# Altium schematic symbol library Interface_USB.SchLib: 106 symbols (part 2 of 2)
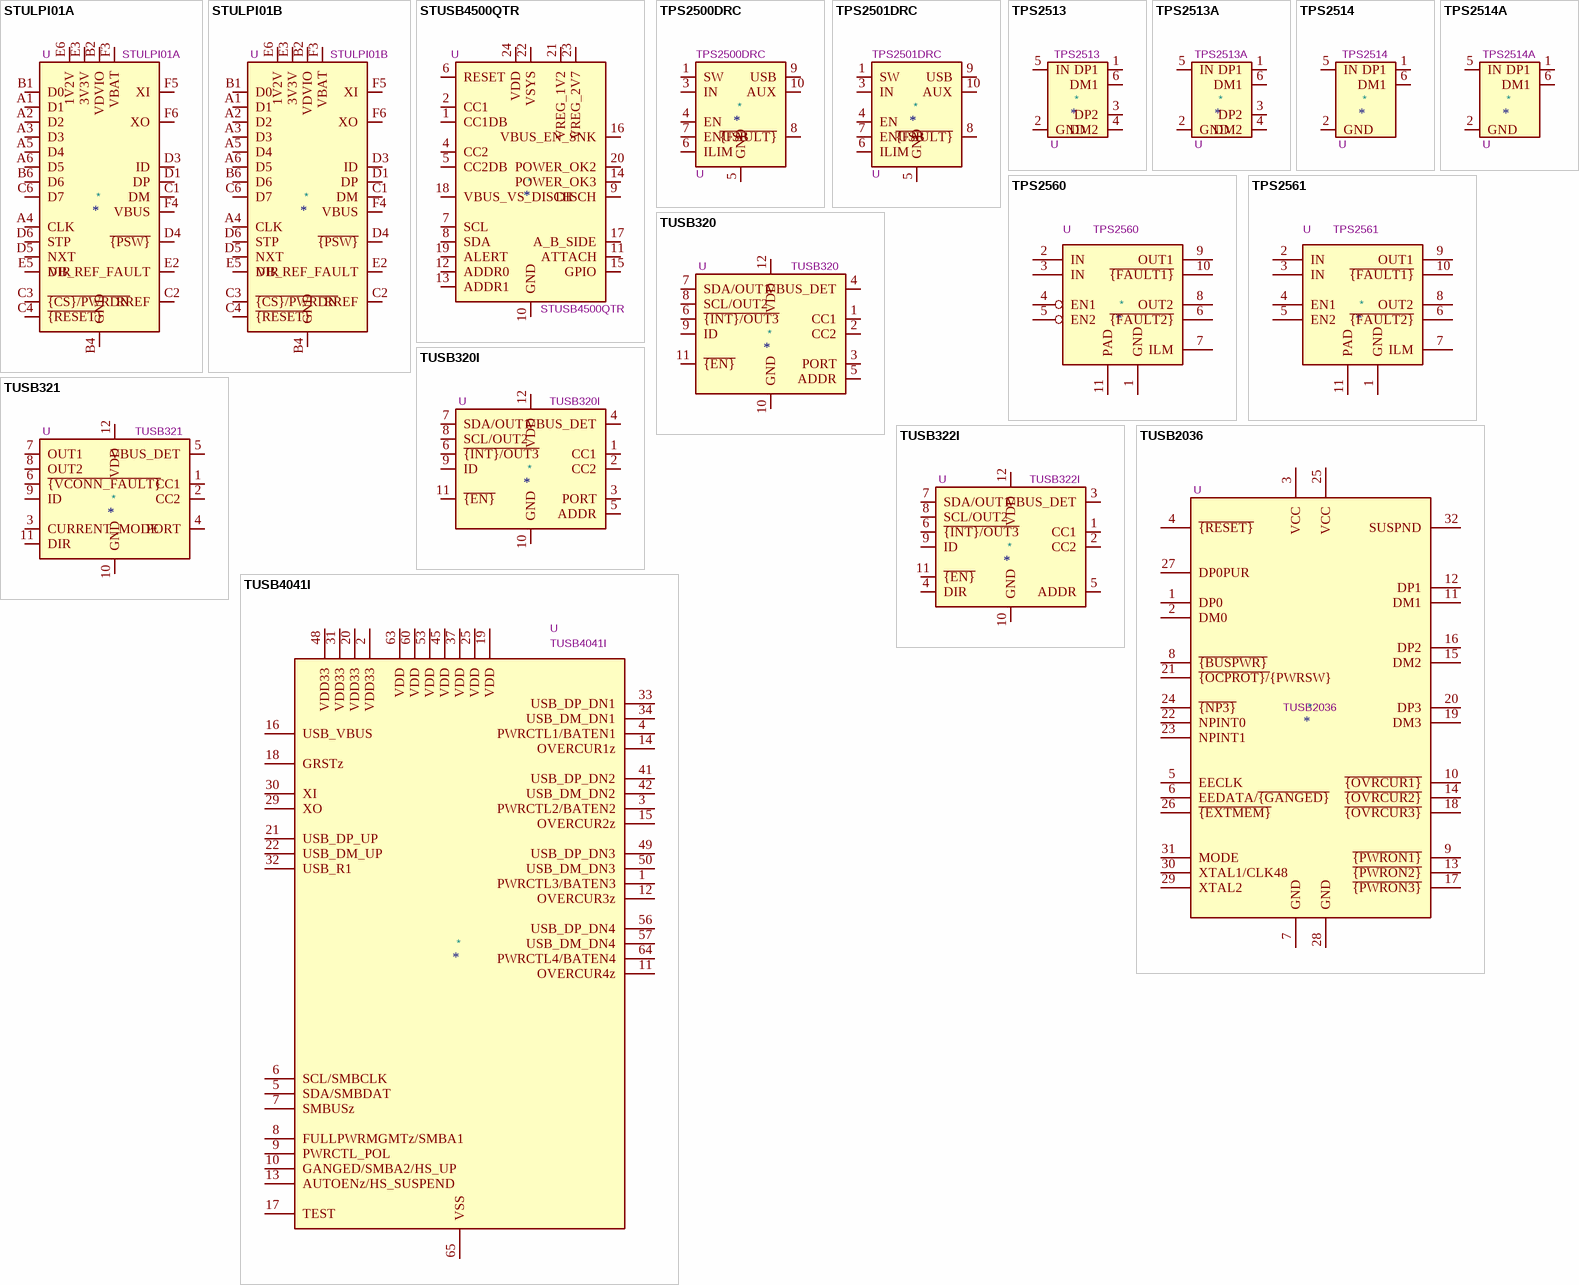
[diagram p7: symbols STULPI01A to TUSB4041I]

## TPS2513A
designator *  value TPS2513A  Reference: U
ki_keywords: USB Charge; ki_description: USB Dedicated Charging Port Controller; ki_fp_filters: SOT?23*; Footprint: Package_TO_SOT_SMD:SOT-23-6; Datasheet: http://www.ti.com/lit/ds/symlink/tps2513.pdf
pins: 1 DP1, 2 GND, 3 DP2, 4 DM2, 5 IN, 6 DM1

## TPS2514
designator *  value TPS2514  Reference: U
ki_keywords: USB Charge; ki_description: USB Dedicated Charging Port Controller; ki_fp_filters: SOT?23*; Footprint: Package_TO_SOT_SMD:SOT-23-6; Datasheet: http://www.ti.com/lit/ds/symlink/tps2513.pdf
pins: 1 DP1, 2 GND, 3 NC hidden, 4 NC hidden, 5 IN, 6 DM1

## TPS2514A
designator *  value TPS2514A  Reference: U
ki_keywords: USB Charge; ki_description: USB Dedicated Charging Port Controller; ki_fp_filters: SOT?23*; Footprint: Package_TO_SOT_SMD:SOT-23-6; Datasheet: http://www.ti.com/lit/ds/symlink/tps2513.pdf
pins: 1 DP1, 2 GND, 3 NC hidden, 4 NC hidden, 5 IN, 6 DM1

## TPS2560
designator *  value TPS2560  Reference: U
ki_keywords: power switche current limited usb port; ki_description: Dual channel precision adjustable current-limited power switches; ki_fp_filters: VSON*3x3mm*P0.5mm*; Footprint: Package_SON:VSON-10-1EP_3x3mm_P0.5mm_EP1.65x2.4mm_ThermalVias; Datasheet: http://www.ti.com/lit/ds/symlink/tps2560.pdf
pins: 1 GND, 2 IN, 3 IN, 4 EN1, 5 EN2, 6 ~{{FAULT2}}, 7 ILM, 8 OUT2, 9 OUT1, 10 ~{{FAULT1}}, 11 PAD

## TPS2561
designator *  value TPS2561  Reference: U
ki_keywords: power switche current limited usb port; ki_description: Dual channel precision adjustable current-limited power switches; ki_fp_filters: VSON*3x3mm*P0.5mm*; Footprint: Package_SON:VSON-10-1EP_3x3mm_P0.5mm_EP1.65x2.4mm_ThermalVias; Datasheet: http://www.ti.com/lit/ds/symlink/tps2561.pdf
pins: 1 GND, 2 IN, 3 IN, 4 EN1, 5 EN2, 6 ~{{FAULT2}}, 7 ILM, 8 OUT2, 9 OUT1, 10 ~{{FAULT1}}, 11 PAD

## TUSB320
designator *  value TUSB320  Reference: U
ki_keywords: USB PD CC; ki_description: USB Type-C Configuration Channel Logic and Port Control, X2QFN-12; ki_fp_filters: Texas?X2QFN*1.6x1.6mm*P0.4mm*; Footprint: Package_DFN_QFN:Texas_X2QFN-12_1.6x1.6mm_P0.4mm; Datasheet: http://www.ti.com/lit/ds/symlink/tusb320.pdf
pins: 1 CC1, 2 CC2, 3 PORT, 4 VBUS_DET, 5 ADDR, 6 ~{{INT}/OUT3}, 7 SDA/OUT1, 8 SCL/OUT2, 9 ID, 10 GND, 11 ~{{EN}}, 12 VDD

## TUSB320I
designator *  value TUSB320I  Reference: U
ki_keywords: USB PD CC; ki_description: USB Type-C Configuration Channel Logic and Port Control, industrial temperature range, X2QFN-12; ki_fp_filters: Texas?X2QFN*1.6x1.6mm*P0.4mm*; Footprint: Package_DFN_QFN:Texas_X2QFN-12_1.6x1.6mm_P0.4mm; Datasheet: http://www.ti.com/lit/ds/symlink/tusb320.pdf
pins: 1 CC1, 2 CC2, 3 PORT, 4 VBUS_DET, 5 ADDR, 6 ~{{INT}/OUT3}, 7 SDA/OUT1, 8 SCL/OUT2, 9 ID, 10 GND, 11 ~{{EN}}, 12 VDD

## TUSB321
designator *  value TUSB321  Reference: U
ki_keywords: USB CC PD VCONN; ki_description: USB Type-C Configuration Channel Logic and Port Control with VCONN, X2QFN-12; ki_fp_filters: Texas?X2QFN*1.6x1.6mm*P0.4mm*; Footprint: Package_DFN_QFN:Texas_X2QFN-12_1.6x1.6mm_P0.4mm; Datasheet: http://www.ti.com/lit/ds/symlink/tusb321.pdf
pins: 1 CC1, 2 CC2, 3 CURRENT_MODE, 4 PORT, 5 VBUS_DET, 6 ~{{VCONN_FAULT}}, 7 OUT1, 8 OUT2, 9 ID, 10 GND, 11 DIR, 12 VDD

## TUSB322I
designator *  value TUSB322I  Reference: U
ki_keywords: USB VCONN PD CC; ki_description: USB Type-C Configuration Channel Logic and Port Control with VCONN, X2QFN-12; ki_fp_filters: Texas?X2QFN*1.6x1.6mm*P0.4mm*; Footprint: Package_DFN_QFN:Texas_X2QFN-12_1.6x1.6mm_P0.4mm; Datasheet: www.ti.com/lit/ds/symlink/tusb322i.pdf
pins: 1 CC1, 2 CC2, 3 VBUS_DET, 4 DIR, 5 ADDR, 6 ~{{INT}/OUT3}, 7 SDA/OUT1, 8 SCL/OUT2, 9 ID, 10 GND, 11 ~{{EN}}, 12 VDD

## TUSB2036
designator *  value TUSB2036  Reference: U
ki_keywords: 2-Port, 3-Port, 3.3V, EEPROM, Full Speed, Hub, Texas Instruments, USB1.1; ki_description: 2- or 3-Port USB1.1 HUB with optional serial EEPROM; ki_fp_filters: LQFP*7x7mm*P0.8mm*; Footprint: Package_QFP:LQFP-32_7x7mm_P0.8mm; Datasheet: http://www.ti.com/lit/ds/symlink/tusb2036.pdf
pins: 1 DP0, 2 DM0, 3 VCC, 4 ~{{RESET}}, 5 EECLK, 6 EEDATA/~{{GANGED}}, 7 GND, 8 ~{{BUSPWR}}, 9 ~{{PWRON1}}, 10 ~{{OVRCUR1}}, 11 DM1, 12 DP1, 13 ~{{PWRON2}}, 14 ~{{OVRCUR2}}, 15 DM2, 16 DP2, 17 ~{{PWRON3}}, 18 ~{{OVRCUR3}}, 19 DM3, 20 DP3, 21 ~{{OCPROT}/}{PWRSW}, 22 NPINT0, 23 NPINT1, 24 ~{{NP3}}, 25 VCC, 26 ~{{EXTMEM}}, 27 DP0PUR, 28 GND, 29 XTAL2, 30 XTAL1/CLK48, 31 MODE, 32 SUSPND

## TUSB4041I
designator *  value TUSB4041I  Reference: U
ki_keywords: USB2.0 hub; ki_description: four port USB 2.0 Hub; ki_fp_filters: HTQFP*10x10mm*P0.5mm*; Footprint: Package_QFP:HTQFP-64-1EP_10x10mm_P0.5mm_EP8x8mm_Mask4.4x4.4mm_ThermalVias; Datasheet: http://www.ti.com/lit/ds/symlink/tusb4041i.pdf
pins: 1 PWRCTL3/BATEN3, 2 VDD33, 3 PWRCTL2/BATEN2, 4 PWRCTL1/BATEN1, 5 SDA/SMBDAT, 6 SCL/SMBCLK, 7 SMBUSz, 8 FULLPWRMGMTz/SMBA1, 9 PWRCTL_POL, 10 GANGED/SMBA2/HS_UP, 11 OVERCUR4z, 12 OVERCUR3z, 13 AUTOENz/HS_SUSPEND, 14 OVERCUR1z, 15 OVERCUR2z, 16 USB_VBUS, 17 TEST, 18 GRSTz, 19 VDD, 20 VDD33, 21 USB_DP_UP, 22 USB_DM_UP, 23 RSVD hidden, 24 RSVD hidden, 25 VDD, 26 RSVD hidden, 27 RSVD hidden, 28 NC hidden, 29 XO, 30 XI, 31 VDD33, 32 USB_R1, 33 USB_DP_DN1, 34 USB_DM_DN1, 35 RSVD hidden, 36 RSVD hidden, 37 VDD, 38 RSVD hidden, 39 RSVD hidden, 40 NC hidden, 41 USB_DP_DN2, 42 USB_DM_DN2, 43 RSVD hidden, 44 RSVD hidden, 45 VDD, 46 RSVD hidden, 47 RSVD hidden, 48 VDD33, 49 USB_DP_DN3, 50 USB_DM_DN3, 51 RSVD hidden, 52 RSVD hidden, 53 VDD, 54 RSVD hidden, 55 RSVD hidden, 56 USB_DP_DN4, 57 USB_DM_DN4, 58 RSVD hidden, 59 RSVD hidden, 60 VDD, 61 RSVD hidden, 62 RSVD hidden, 63 VDD, 64 PWRCTL4/BATEN4, 65 VSS

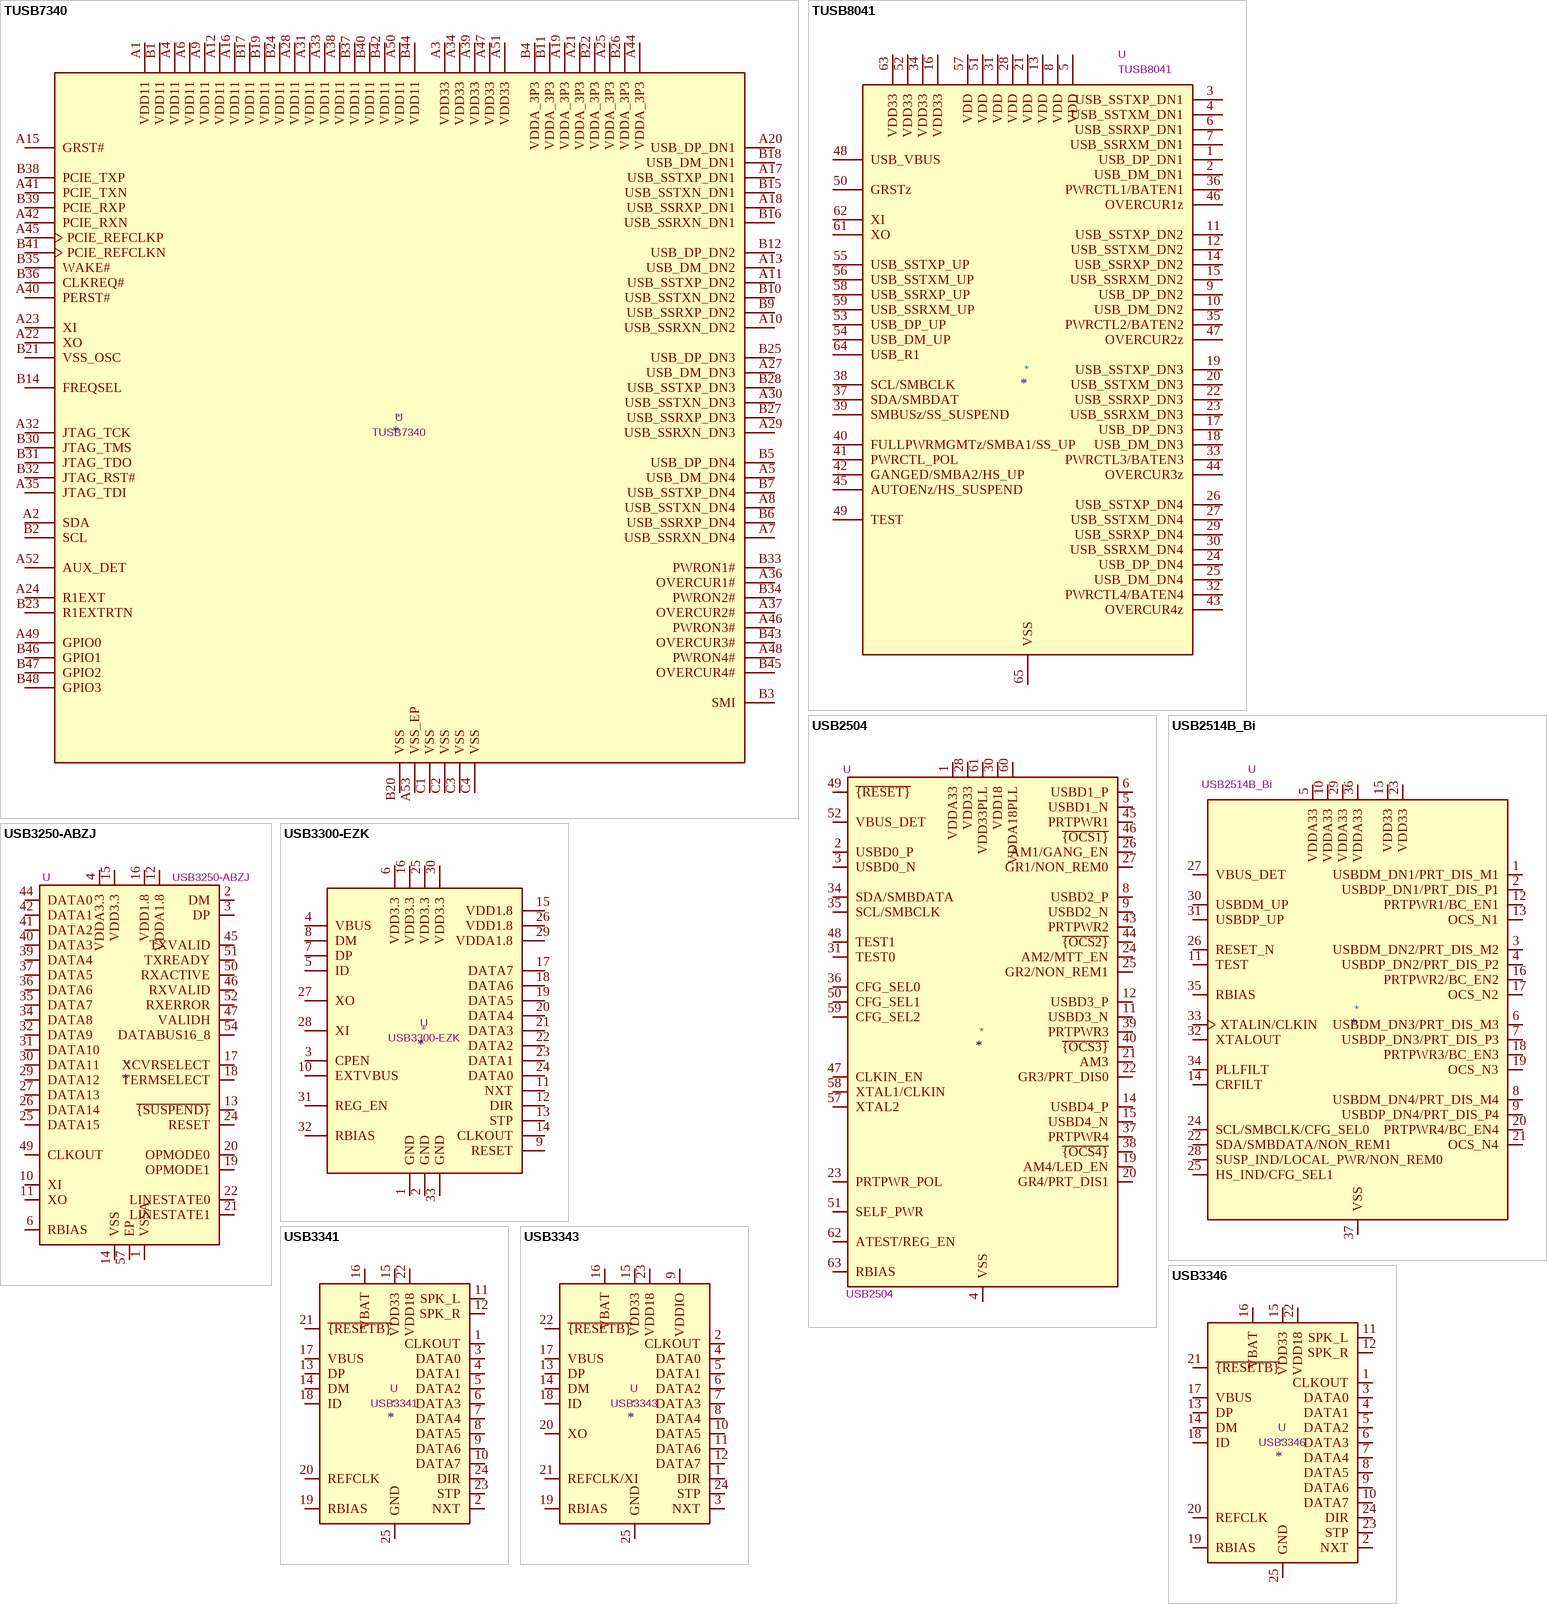
[diagram p5: symbols TUSB7340 to USB3346]

## TUSB7340
designator *  value TUSB7340  Reference: U
ki_keywords: USB HUB PCIE; ki_description: USB 3.0 xHCI Host Controller; ki_fp_filters: Texas*S?PWQFN?N100*; Footprint: Package_DFN_QFN:Texas_S-PWQFN-N100_EP5.5x5.5mm_ThermalVias; Datasheet: http://www.ti.com/general/docs/lit/getliterature.tsp?genericPartNumber=tusb7320&fileType=pdf
pins: A1 VDD11, A2 SDA, A3 VDD33, A4 VDD11, A5 USB_DM_DN4, A6 VDD11, A7 USB_SSRXN_DN4, A8 USB_SSTXN_DN4, A9 VDD11, A10 USB_SSRXN_DN2, A11 USB_SSTXP_DN2, A12 VDD11, A13 USB_DM_DN2, A14 NC hidden, A15 GRST#, A16 VDD11, A17 USB_SSTXP_DN1, A18 USB_SSRXP_DN1, A19 VDDA_3P3, A20 USB_DP_DN1, A21 VDDA_3P3, A22 XO, A23 XI, A24 R1EXT, A25 VDDA_3P3, A26 NC hidden, A27 USB_DM_DN3, A28 VDD11, A29 USB_SSRXN_DN3, A30 USB_SSTXN_DN3, A31 VDD11, A32 JTAG_TCK, A33 VDD11, A34 VDD33, A35 JTAG_TDI, A36 OVERCUR1#, A37 OVERCUR2#, A38 VDD11, A39 VDD33, A40 PERST#, A41 PCIE_TXN, A42 PCIE_RXN, A43 NC hidden, A44 VDDA_3P3, A45 PCIE_REFCLKP, A46 PWRON3#, A47 VDD33, A48 PWRON4#, A49 GPIO0, A50 VDD11, A51 VDD33, A52 AUX_DET, A53 VSS_EP, B1 VDD11, B2 SCL, B3 SMI, B4 VDDA_3P3, B5 USB_DP_DN4, B6 USB_SSRXP_DN4, B7 USB_SSTXP_DN4, B8 NC hidden, B9 USB_SSRXP_DN2, B10 USB_SSTXN_DN2, B11 VDDA_3P3, B12 USB_DP_DN2, B13 NC hidden, B14 FREQSEL, B15 USB_SSTXN_DN1, B16 USB_SSRXN_DN1, B17 VDD11, B18 USB_DM_DN1, B19 VDD11, B20 VSS, B21 VSS_OSC, B22 VDDA_3P3, B23 R1EXTRTN, B24 VDD11, B25 USB_DP_DN3, B26 VDDA_3P3, B27 USB_SSRXP_DN3, B28 USB_SSTXP_DN3, B29 NC hidden, B30 JTAG_TMS, B31 JTAG_TDO, B32 JTAG_RST#, B33 PWRON1#, B34 PWRON2#, B35 WAKE#, B36 CLKREQ#, B37 VDD11, B38 PCIE_TXP, B39 PCIE_RXP, B40 VDD11, B41 PCIE_REFCLKN, B42 VDD11, B43 OVERCUR3#, B44 VDD11, B45 OVERCUR4#, B46 GPIO1, B47 GPIO2, B48 GPIO3, C1 VSS, C2 VSS, C3 VSS, C4 VSS

## TUSB8041
designator *  value TUSB8041  Reference: U
ki_keywords: USB3.0 hub; ki_description: four port USB 3.0 Hub; ki_fp_filters: QFN*9x9mm*P0.5mm*; Footprint: Package_DFN_QFN:QFN-64-1EP_9x9mm_P0.5mm_EP6x6mm_ThermalVias; Datasheet: http://www.ti.com/lit/ds/symlink/tusb8041.pdf
pins: 1 USB_DP_DN1, 2 USB_DM_DN1, 3 USB_SSTXP_DN1, 4 USB_SSTXM_DN1, 5 VDD, 6 USB_SSRXP_DN1, 7 USB_SSRXM_DN1, 8 VDD, 9 USB_DP_DN2, 10 USB_DM_DN2, 11 USB_SSTXP_DN2, 12 USB_SSTXM_DN2, 13 VDD, 14 USB_SSRXP_DN2, 15 USB_SSRXM_DN2, 16 VDD33, 17 USB_DP_DN3, 18 USB_DM_DN3, 19 USB_SSTXP_DN3, 20 USB_SSTXM_DN3, 21 VDD, 22 USB_SSRXP_DN3, 23 USB_SSRXM_DN3, 24 USB_DP_DN4, 25 USB_DM_DN4, 26 USB_SSTXP_DN4, 27 USB_SSTXM_DN4, 28 VDD, 29 USB_SSRXP_DN4, 30 USB_SSRXM_DN4, 31 VDD, 32 PWRCTL4/BATEN4, 33 PWRCTL3/BATEN3, 34 VDD33, 35 PWRCTL2/BATEN2, 36 PWRCTL1/BATEN1, 37 SDA/SMBDAT, 38 SCL/SMBCLK, 39 SMBUSz/SS_SUSPEND, 40 FULLPWRMGMTz/SMBA1/SS_UP, 41 PWRCTL_POL, 42 GANGED/SMBA2/HS_UP, 43 OVERCUR4z, 44 OVERCUR3z, 45 AUTOENz/HS_SUSPEND, 46 OVERCUR1z, 47 OVERCUR2z, 48 USB_VBUS, 49 TEST, 50 GRSTz, 51 VDD, 52 VDD33, 53 USB_DP_UP, 54 USB_DM_UP, 55 USB_SSTXP_UP, 56 USB_SSTXM_UP, 57 VDD, 58 USB_SSRXP_UP, 59 USB_SSRXM_UP, 60 NC hidden, 61 XO, 62 XI, 63 VDD33, 64 USB_R1, 65 VSS

## USB2504
designator *  value USB2504  Reference: U
ki_keywords: USB2.0 Hi-Speed-USB-Hub Hub-Controller; ki_description: USB 2.0 4-Port Hub Hi-Speed Hub Controller; ki_fp_filters: LQFP*10x10mm*P0.5mm*; Footprint: Package_QFP:LQFP-64_10x10mm_P0.5mm; Datasheet: https://ww1.microchip.com/downloads/en/DeviceDoc/00002250A.pdf
pins: 1 VDDA33, 2 USBD0_P, 3 USBD0_N, 4 VSS, 5 USBD1_N, 6 USBD1_P, 7 VDDA33 hidden, 8 USBD2_P, 9 USBD2_N, 10 VSS hidden, 11 USBD3_N, 12 USBD3_P, 13 VDDA33 hidden, 14 USBD4_P, 15 USBD4_N, 16 VSS hidden, 17 NC hidden, 18 NC hidden, 19 AM4/LED_EN, 20 GR4/PRT_DIS1, 21 AM3, 22 GR3/PRT_DIS0, 23 PRTPWR_POL, 24 AM2/MTT_EN, 25 GR2/NON_REM1, 26 AM1/GANG_EN, 27 GR1/NON_REM0, 28 VDD33, 29 VSS hidden, 30 VDD18, 31 TEST0, 32 NC hidden, 33 NC hidden, 34 SDA/SMBDATA, 35 SCL/SMBCLK, 36 CFG_SEL0, 37 PRTPWR4, 38 ~{{OCS4}}, 39 PRTPWR3, 40 ~{{OCS3}}, 41 VSS hidden, 42 VDD18 hidden, 43 PRTPWR2, 44 ~{{OCS2}}, 45 PRTPWR1, 46 ~{{OCS1}}, 47 CLKIN_EN, 48 TEST1, 49 ~{{RESET}}, 50 CFG_SEL1, 51 SELF_PWR, 52 VBUS_DET, 53 VSS hidden, 54 VDD18 hidden, 55 VSS hidden, 56 NC hidden, 57 XTAL2, 58 XTAL1/CLKIN, 59 CFG_SEL2, 60 VDDA18PLL, 61 VDD33PLL, 62 ATEST/REG_EN, 63 RBIAS, 64 VSS hidden

## USB2514B_Bi
designator *  value USB2514B_Bi  Reference: U
ki_keywords: USB2.0 Hi-Speed-USB-Hub Hub-Controller; ki_description: USB 2.0 Hi-Speed Hub Controller; ki_fp_filters: QFN*6x6mm*P0.5mm*; Footprint: Package_DFN_QFN:QFN-36-1EP_6x6mm_P0.5mm_EP3.7x3.7mm; Datasheet: http://ww1.microchip.com/downloads/en/DeviceDoc/00001692C.pdf
pins: 1 USBDM_DN1/PRT_DIS_M1, 2 USBDP_DN1/PRT_DIS_P1, 3 USBDM_DN2/PRT_DIS_M2, 4 USBDP_DN2/PRT_DIS_P2, 5 VDDA33, 6 USBDM_DN3/PRT_DIS_M3, 7 USBDP_DN3/PRT_DIS_P3, 8 USBDM_DN4/PRT_DIS_M4, 9 USBDP_DN4/PRT_DIS_P4, 10 VDDA33, 11 TEST, 12 PRTPWR1/BC_EN1, 13 OCS_N1, 14 CRFILT, 15 VDD33, 16 PRTPWR2/BC_EN2, 17 OCS_N2, 18 PRTPWR3/BC_EN3, 19 OCS_N3, 20 PRTPWR4/BC_EN4, 21 OCS_N4, 22 SDA/SMBDATA/NON_REM1, 23 VDD33, 24 SCL/SMBCLK/CFG_SEL0, 25 HS_IND/CFG_SEL1, 26 RESET_N, 27 VBUS_DET, 28 SUSP_IND/LOCAL_PWR/NON_REM0, 29 VDDA33, 30 USBDM_UP, 31 USBDP_UP, 32 XTALOUT, 33 XTALIN/CLKIN, 34 PLLFILT, 35 RBIAS, 36 VDDA33, 37 VSS

## USB3250-ABZJ
designator *  value USB3250-ABZJ  Reference: U
ki_keywords: HS FS Device USB PHY UTMI; ki_description: Hi-Speed USB Device Transceiver with UTMI Interface, QFN-56; ki_fp_filters: QFN*1EP*8x8mm*P0.5mm*; Footprint: Package_DFN_QFN:QFN-56-1EP_8x8mm_P0.5mm_EP4.3x4.3mm; Datasheet: http://ww1.microchip.com/downloads/en/DeviceDoc/00002142A.pdf
pins: 1 VSSA, 2 DM, 3 DP, 4 VDDA3.3, 5 VSSA hidden, 6 RBIAS, 7 VDDA3.3 hidden, 8 VSSA hidden, 9 VSSA hidden, 10 XI, 11 XO, 12 VDDA1.8, 13 ~{{SUSPEND}}, 14 VSS, 15 VDD3.3, 16 VDD1.8, 17 XCVRSELECT, 18 TERMSELECT, 19 OPMODE1, 20 OPMODE0, 21 LINESTATE1, 22 LINESTATE0, 23 VDD1.8 hidden, 24 RESET, 25 DATA15, 26 DATA14, 27 DATA13, 28 VDD3.3 hidden, 29 DATA12, 30 DATA11, 31 DATA10, 32 DATA9, 33 VSS hidden, 34 DATA8, 35 DATA7, 36 DATA6, 37 DATA5, 38 VDD1.8 hidden, 39 DATA4, 40 DATA3, 41 DATA2, 42 DATA1, 43 VDD3.3 hidden, 44 DATA0, 45 TXVALID, 46 RXVALID, 47 VALIDH, 48 VSS hidden, 49 CLKOUT, 50 RXACTIVE, 51 TXREADY, 52 RXERROR, 53 VDD1.8 hidden, 54 DATABUS16_8, 55 VSS hidden, 56 VSS hidden, 57 EP

## USB3300-EZK
designator *  value USB3300-EZK  Reference: U
ki_keywords: USB OTG Hi-Speed PHY ULPI Interface; ki_description: Hi-Speed USB Host, Device or OTG PHY with ULPI Interface; ki_fp_filters: *QFN*32*1EP*5x5mm*P0.5mm*; Footprint: Package_DFN_QFN:QFN-32-1EP_5x5mm_P0.5mm_EP3.45x3.45mm; Datasheet: http://ww1.microchip.com/downloads/en/DeviceDoc/00001783C.pdf
pins: 1 GND, 2 GND, 3 CPEN, 4 VBUS, 5 ID, 6 VDD3.3, 7 DP, 8 DM, 9 RESET, 10 EXTVBUS, 11 NXT, 12 DIR, 13 STP, 14 CLKOUT, 15 VDD1.8, 16 VDD3.3, 17 DATA7, 18 DATA6, 19 DATA5, 20 DATA4, 21 DATA3, 22 DATA2, 23 DATA1, 24 DATA0, 25 VDD3.3, 26 VDD1.8, 27 XO, 28 XI, 29 VDDA1.8, 30 VDD3.3, 31 REG_EN, 32 RBIAS, 33 GND

## USB3341
designator *  value USB3341  Reference: U
ki_keywords: USB ULPI Transceiver; ki_description: Hi-Speed USB ULPI Transceiver, QFN-24; ki_fp_filters: QFN*1EP*4x4mm*P0.5mm*; Footprint: Package_DFN_QFN:QFN-24-1EP_4x4mm_P0.5mm_EP2.6x2.6mm; Datasheet: http://ww1.microchip.com/downloads/en/DeviceDoc/334x.pdf
pins: 1 CLKOUT, 2 NXT, 3 DATA0, 4 DATA1, 5 DATA2, 6 DATA3, 7 DATA4, 8 DATA5, 9 DATA6, 10 DATA7, 11 SPK_L, 12 SPK_R, 13 DP, 14 DM, 15 VDD33, 16 VBAT, 17 VBUS, 18 ID, 19 RBIAS, 20 REFCLK, 21 ~{{RESETB}}, 22 VDD18, 23 STP, 24 DIR, 25 GND

## USB3343
designator *  value USB3343  Reference: U
ki_keywords: USB ULPI Transceiver; ki_description: Hi-Speed USB ULPI Transceiver, QFN-24; ki_fp_filters: QFN*1EP*4x4mm*P0.5mm*; Footprint: Package_DFN_QFN:QFN-24-1EP_4x4mm_P0.5mm_EP2.6x2.6mm; Datasheet: http://ww1.microchip.com/downloads/en/DeviceDoc/334x.pdf
pins: 1 DIR, 2 CLKOUT, 3 NXT, 4 DATA0, 5 DATA1, 6 DATA2, 7 DATA3, 8 DATA4, 9 VDDIO, 10 DATA5, 11 DATA6, 12 DATA7, 13 DP, 14 DM, 15 VDD33, 16 VBAT, 17 VBUS, 18 ID, 19 RBIAS, 20 XO, 21 REFCLK/XI, 22 ~{{RESETB}}, 23 VDD18, 24 STP, 25 GND

## USB3346
designator *  value USB3346  Reference: U
ki_keywords: USB ULPI Transceiver; ki_description: Hi-Speed USB ULPI Transceiver, QFN-24; ki_fp_filters: QFN*1EP*4x4mm*P0.5mm*; Footprint: Package_DFN_QFN:QFN-24-1EP_4x4mm_P0.5mm_EP2.6x2.6mm; Datasheet: http://ww1.microchip.com/downloads/en/DeviceDoc/334x.pdf
pins: 1 CLKOUT, 2 NXT, 3 DATA0, 4 DATA1, 5 DATA2, 6 DATA3, 7 DATA4, 8 DATA5, 9 DATA6, 10 DATA7, 11 SPK_L, 12 SPK_R, 13 DP, 14 DM, 15 VDD33, 16 VBAT, 17 VBUS, 18 ID, 19 RBIAS, 20 REFCLK, 21 ~{{RESETB}}, 22 VDD18, 23 STP, 24 DIR, 25 GND

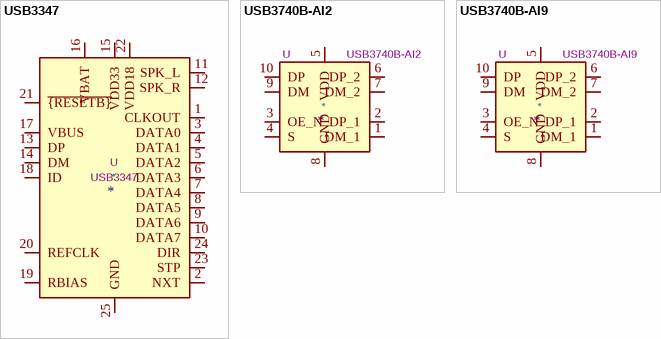
[diagram p6: symbols USB3347 to USB3740B-AI9]

## USB3347
designator *  value USB3347  Reference: U
ki_keywords: USB ULPI Transceiver; ki_description: Hi-Speed USB ULPI Transceiver, QFN-24; ki_fp_filters: QFN*1EP*4x4mm*P0.5mm*; Footprint: Package_DFN_QFN:QFN-24-1EP_4x4mm_P0.5mm_EP2.6x2.6mm; Datasheet: http://ww1.microchip.com/downloads/en/DeviceDoc/334x.pdf
pins: 1 CLKOUT, 2 NXT, 3 DATA0, 4 DATA1, 5 DATA2, 6 DATA3, 7 DATA4, 8 DATA5, 9 DATA6, 10 DATA7, 11 SPK_L, 12 SPK_R, 13 DP, 14 DM, 15 VDD33, 16 VBAT, 17 VBUS, 18 ID, 19 RBIAS, 20 REFCLK, 21 ~{{RESETB}}, 22 VDD18, 23 STP, 24 DIR, 25 GND

## USB3740B-AI2
designator *  value USB3740B-AI2  Reference: U
ki_keywords: USB 2.0 High Speed Switch; ki_description: USB 2.0 Switch with ESD Protection, UQFN-10 Pitch 0.4 mm; ki_fp_filters: UQFN*1.3x1.8mm?P0.4mm* UQFN*1.6x2.1mm?P0.5mm*; Datasheet: http://ww1.microchip.com/downloads/en/DeviceDoc/00001725D.pdf
pins: 1 DM_1, 2 DP_1, 3 OE_N, 4 S, 5 VDD, 6 DP_2, 7 DM_2, 8 GND, 9 DM, 10 DP

## USB3740B-AI9
designator *  value USB3740B-AI9  Reference: U
ki_keywords: USB 2.0 High Speed Switch; ki_description: USB 2.0 Switch with ESD Protection, UQFN-10 Pitch 0.5mm; ki_fp_filters: UQFN*1.3x1.8mm?P0.4mm* UQFN*1.6x2.1mm?P0.5mm*; Datasheet: http://ww1.microchip.com/downloads/en/DeviceDoc/00001725D.pdf
pins: 1 DM_1, 2 DP_1, 3 OE_N, 4 S, 5 VDD, 6 DP_2, 7 DM_2, 8 GND, 9 DM, 10 DP